# Altium schematic symbol library Passive components.SchLib: 31 symbols
Pins are listed as number, name and electrical type; pins without a type are passive.

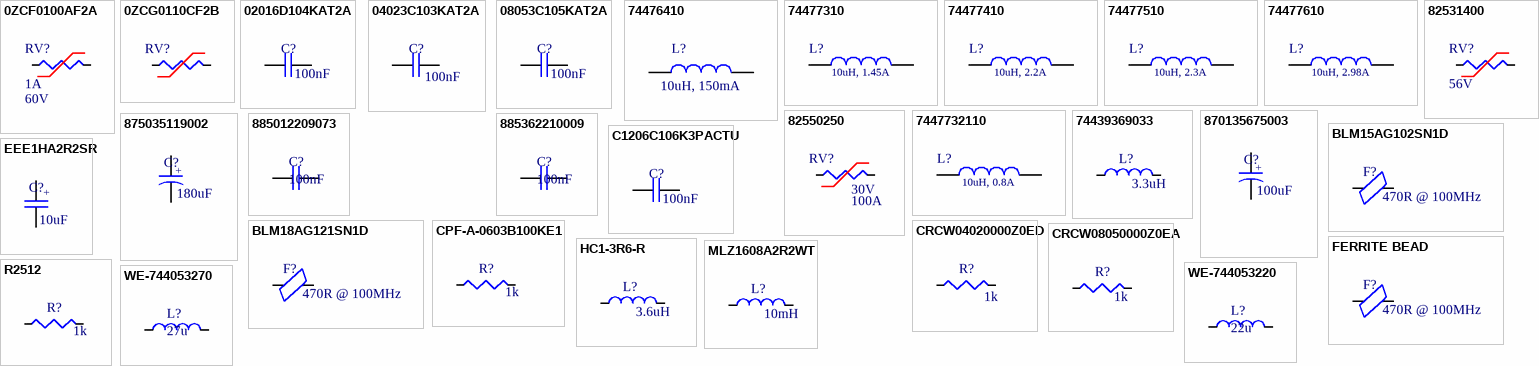
[diagram p0: symbols 0ZCF0100AF2A to WE-744053270]

## 0ZCF0100AF2A
designator RV?  Voltage rating: 60V  Hold current: 1A
Polyfuse 2920; Requirements: 0ZCF0100AF2A
footprint VARISTOR 2920 (Chip Resistor, 2-Leads, Body 7.36x5.12mm, IPC Medium Density)
pins: 1, 2

## 0ZCG0110CF2B
designator RV?
Polyfuse 1812; ComponentLink1URL: https://datasheet.ciiva.com/12349/82550250-91849-12349827.pdf?src-supplier=Mouser; ComponentLink1Description: https://datasheet.ciiva.com/12349/82550250-91849-12349827.pdf?src-supplier=Mouser; ComponentLink2URL: https://datasheet.ciiva.com/366/82550250-366295.pdf?src-supplier=Digi-Key; ComponentLink2Description: https://datasheet.ciiva.com/366/82550250-366295.pdf?src-supplier=Digi-Key; ComponentLink3URL: https://datasheet.ciiva.com/11834/0900766b80d2e3c9-11834574.pdf?src-supplier=RSComponents; ComponentLink3Description: https://datasheet.ciiva.com/11834/0900766b80d2e3c9-11834574.pdf?src-supplier=RSComponents; ComponentLink4URL: https://datasheet.ciiva.com/22714/78088-22714501.pdf?src-supplier=Element14; ComponentLink4Description: https://datasheet.ciiva.com/22714/78088-22714501.pdf?src-supplier=Element14; ComponentLink5URL: https://datasheet.ciiva.com/1277/78088-1277607.pdf?src-supplier=Element14; ComponentLink5Description: https://datasheet.ciiva.com/1277/78088-1277607.pdf?src-supplier=Element14; ComponentLink6URL: https://datasheet.ciiva.com/366/82550250-366296.pdf?src-supplier=Digi-Key; ComponentLink6Description: https://datasheet.ciiva.com/366/82550250-366296.pdf?src-supplier=Digi-Key; ComponentLink7URL: https://datasheet.ciiva.com/366/82550250-366297.pdf?src-supplier=Digi-Key; ComponentLink7Description: https://datasheet.ciiva.com/366/82550250-366297.pdf?src-supplier=Digi-Key; ComponentLink8URL: https://datasheet.ciiva.com/26310/82550250-eng-tds-26310076.pdf?src-supplier=Distrelec; ComponentLink8Description: https://datasheet.ciiva.com/26310/82550250-eng-tds-26310076.pdf?src-supplier=Distrelec
footprint Varistor 1812
pins: 1, 2

## 02016D104KAT2A
designator C?  value 100nF
C0603
footprint C0603
pins: 1, 2

## 04023C103KAT2A
designator C?  value 100nF
C0402
footprint C0402
pins: 1, 2

## 08053C105KAT2A
designator C?  value 100nF
C0805
footprint C0805
pins: 1, 2

## 74476410
designator L?, comment 10uH, 150mA
WE-GF SMT Wire Wound Inductor, size 1210, 10uH, 150mA; Manufacturer Part Number: 74476410; Manufacturer: Wurth Elektronik; Q-Factor: 30; Self Resonant Frequency: 40MHz; DC Resistance max.: 2.1Ohm; ComponentLink1Description: Manufacturer; ComponentLink1URL: http://www.we-online.de; ComponentLink2Description: Datasheet; ComponentLink2URL: https://www.we-online.com/catalog/datasheet/74476410.pdf; Operating Temperature: -40 to +105degC; Packaging: Tape and Reel; Published Date: April 2020; Inductance: 10uH; Rated Current: 150mA; Mounting Technology: SMT; Size: 1210
footprint WE-GF_1210
pins: 1, 2

## 74477310
designator L?, comment 10uH, 1.45A
WE-PD2 SMT Power Inductor, size 4532, 10uH, 1.45A; Manufacturer: Wurth Elektronik; Manufacturer Part Number: 74477310; Self Resonant Frequency: 37MHz; DC Resistance max.: 0.182Ohm; DC Resistance typ.: 0.118Ohm; Saturation Current: 1.74A; ComponentLink1Description: Manufacturer; ComponentLink1URL: http://www.we-online.de; ComponentLink2Description: Datasheet; ComponentLink2URL: https://www.we-online.com/catalog/datasheet/74477310.pdf; Packaging: Tape and Reel; Published Date: April 2020; Rated Current: 1.45A; Operating Temperature: -40 to +125degC; Size: 4532; Inductance: 10uH; Mounting Technology: SMT
footprint WE-PD2_4532
pins: 1, 2

## 74477410
designator L?, comment 10uH, 2.2A
WE-PD2 SMT Power Inductor, size 5848, 10uH, 2.2A; Manufacturer: Wurth Elektronik; Manufacturer Part Number: 74477410; Self Resonant Frequency: 26MHz; DC Resistance max.: 0.1Ohm; DC Resistance typ.: 0.078Ohm; Saturation Current: 2.5A; ComponentLink1Description: Manufacturer; ComponentLink1URL: http://www.we-online.de; ComponentLink2Description: Datasheet; ComponentLink2URL: https://www.we-online.com/catalog/datasheet/74477410.pdf; Packaging: Tape and Reel; Published Date: April 2020; Rated Current: 2.2A; Operating Temperature: -40 to +125degC; Size: 5848; Inductance: 10uH; Mounting Technology: SMT
footprint WE-PD2_5848
pins: 1, 2

## 74477510
designator L?, comment 10uH, 2.3A
WE-PD2 SMT Power Inductor, size 7850, 10uH, 2.3A; Manufacturer: Wurth Elektronik; Manufacturer Part Number: 74477510; Self Resonant Frequency: 28MHz; DC Resistance max.: 0.07Ohm; DC Resistance typ.: 0.044Ohm; Saturation Current: 2.95A; ComponentLink1Description: Manufacturer; ComponentLink1URL: http://www.we-online.de; ComponentLink2Description: Datasheet; ComponentLink2URL: https://www.we-online.com/catalog/datasheet/74477510.pdf; Packaging: Tape and Reel; Published Date: April 2020; Rated Current: 2.3A; Operating Temperature: -40 to +125degC; Size: 7850; Inductance: 10uH; Mounting Technology: SMT
footprint WE-PD2_7850
pins: 1, 2

## 74477610
designator L?, comment 10uH, 2.98A
WE-PD2 SMT Power Inductor, size 1054, 10uH, 2.98A; Manufacturer: Wurth Elektronik; Manufacturer Part Number: 74477610; Self Resonant Frequency: 24MHz; DC Resistance max.: 0.06Ohm; DC Resistance typ.: 0.028Ohm; Saturation Current: 3.24A; ComponentLink1Description: Manufacturer; ComponentLink1URL: http://www.we-online.de; ComponentLink2Description: Datasheet; ComponentLink2URL: https://www.we-online.com/catalog/datasheet/74477610.pdf; Packaging: Tape and Reel; Published Date: April 2020; Rated Current: 2.98A; Operating Temperature: -40 to +125degC; Size: 1054; Inductance: 10uH; Mounting Technology: SMT
footprint WE-PD2_1054
pins: 1, 2

## 82531400
designator RV?  Operating voltage: 56V
Varistor 1206; Requirements: 82531400
footprint VARISTOR 1206 (Chip Resistor, 2-Leads, Body 3.20x1.60mm, IPC Medium Density)
pins: 1, 2

## 82550250
designator RV?  Max Surge Current: 100A  Max Voltage Rating (DC): 30V
Varistor 0805; Manufacturer 1: Wurth Electronics; Manufacturer Part Number 1: 82550250; Capacitance: 310pF; Current Rating: 1A; Voltage Rating (AC): 25V; Clamping Voltage: 65V; Number of Circuits: 1; Energy: 0.3J; Min Varistor Voltage: 35.1V; Varistor Voltage: 39V; Max Varistor Voltage: 42.9V; Supplier 1: Digi-Key; Stock 1: 544; Pricing 1: 1=0.66000, 10=0.64500, 50=0.61800, 100=0.59100, 500=0.56400, 1000=0.53800 (USD); RoHS: Yes; Mount: Surface Mount; Case/Package: 0805; Case Code (Imperial): 0805; Case Code (Metric): 2012; Min Operating Temperature: -40°C; Max Operating Temperature: 85°C; Packaging: Tape and Reel; Voltage Rating (DC): 30V; Package Quantity: 1; Max Supply Voltage: 25V; Max Voltage Rating (AC): 25V; Termination: SMD/SMT; Clamping Current: 1A; Peak Pulse Current: 100A; Length: 2mm; Width: 1.25mm; Depth: 1.25mm; REACH SVHC: Unknown; ComponentLink1URL: https://datasheet.ciiva.com/12349/82550250-91849-12349827.pdf?src-supplier=Mouser; ComponentLink1Description: https://datasheet.ciiva.com/12349/82550250-91849-12349827.pdf?src-supplier=Mouser; ComponentLink2URL: https://datasheet.ciiva.com/366/82550250-366295.pdf?src-supplier=Digi-Key; ComponentLink2Description: https://datasheet.ciiva.com/366/82550250-366295.pdf?src-supplier=Digi-Key; ComponentLink3URL: https://datasheet.ciiva.com/11834/0900766b80d2e3c9-11834574.pdf?src-supplier=RSComponents; ComponentLink3Description: https://datasheet.ciiva.com/11834/0900766b80d2e3c9-11834574.pdf?src-supplier=RSComponents; ComponentLink4URL: https://datasheet.ciiva.com/22714/78088-22714501.pdf?src-supplier=Element14; ComponentLink4Description: https://datasheet.ciiva.com/22714/78088-22714501.pdf?src-supplier=Element14; ComponentLink5URL: https://datasheet.ciiva.com/1277/78088-1277607.pdf?src-supplier=Element14; ComponentLink5Description: https://datasheet.ciiva.com/1277/78088-1277607.pdf?src-supplier=Element14; ComponentLink6URL: https://datasheet.ciiva.com/366/82550250-366296.pdf?src-supplier=Digi-Key; ComponentLink6Description: https://datasheet.ciiva.com/366/82550250-366296.pdf?src-supplier=Digi-Key; ComponentLink7URL: https://datasheet.ciiva.com/366/82550250-366297.pdf?src-supplier=Digi-Key; ComponentLink7Description: https://datasheet.ciiva.com/366/82550250-366297.pdf?src-supplier=Digi-Key; ComponentLink8URL: https://datasheet.ciiva.com/26310/82550250-eng-tds-26310076.pdf?src-supplier=Distrelec; ComponentLink8Description: https://datasheet.ciiva.com/26310/82550250-eng-tds-26310076.pdf?src-supplier=Distrelec; Supplier Part Number 1: 732-2547-1-ND
footprint VARISTOR 0805
pins: 1, 2

## 7447732110
designator L?, comment 10uH, 0.8A
WE-PD2 SMT Power Inductor, size 3521, 10uH, 0.8A; Manufacturer: Wurth Elektronik; Manufacturer Part Number: 7447732110; Self Resonant Frequency: 45MHz; DC Resistance max.: 0.3Ohm; DC Resistance typ.: 0.237Ohm; Saturation Current: 1.23A; ComponentLink1Description: Manufacturer; ComponentLink1URL: http://www.we-online.de; ComponentLink2Description: Datasheet; ComponentLink2URL: https://www.we-online.com/catalog/datasheet/7447732110.pdf; Packaging: Tape and Reel; Published Date: April 2020; Rated Current: 0.8A; Operating Temperature: -40 to +125degC; Size: 3521; Inductance: 10uH; Mounting Technology: SMT
footprint WE-PD2_3521
pins: 1, 2

## 74439369033
designator L?, comment 3.3uH
Inductor 1090 3.3uH 15A 3.4mOhm; Value: 3.3uH
footprint L 1090 (SMT Power Inductor, 2-Leads, body 11.6x10.5mm)
pins: 1, 2

## 870135675003
designator C?  value 100uF
C El. Radial 10x12.5mm
footprint C THT 10x12.5 (Aluminium Polymer Radial THD Capacitors, 10x12.5mm)
pins: 1, 2
text: +

## 875035119002
designator C?  value 180uF
C2917 El.
footprint C2917 Molded Polarized
pins: 1, 2
text: +

## 885012209073
designator C?, comment 100nF
C1210
footprint C1210
pins: 1, 2

## 885362210009
designator C?, comment 100nF
C1808
footprint C1808 (Chip Capacitor, 2-Leads, Body 4.50x2.00mm, IPC Low Density)
pins: 1, 2

## BLM15AG102SN1D
designator F?  value 470R @ 100MHz
Ferrite bead 0402
footprint Ferrite bead 0402
pins: 1, 2

## BLM18AG121SN1D
designator F?  value 470R @ 100MHz
Ferrite bead 0603
footprint Ferrite bead 0603
pins: 1, 2

## C1206C106K3PACTU
designator C?  value 100nF
C1206
footprint C1206
pins: 1, 2

## CPF-A-0603B100KE1
designator R?  value 1k
R0603
footprint R0603
pins: 1, 2

## CRCW04020000Z0ED
designator R?  value 1k
R0402
footprint R0402
pins: 1, 2

## CRCW08050000Z0EA
designator R?  value 1k
R0805
footprint R0805
pins: 1, 2

## EEE1HA2R2SR
designator C?  value 10uF
El. Capacitor SMD 4x5.4
footprint Capacitor electrolytic SMD 4x5.4 (Aluminum Electrolytic Capacitor, Body 4.30x4.30x5.40mm, IPC Low Density)
pins: 1, 2
text: +

## FERRITE BEAD
designator F?, comment 470R @ 100MHz
Wurth Ferrite bead 0805; Value: 470R @ 100MHz
footprint Ferrite bead 0805
pins: 1, 2

## HC1-3R6-R
designator L?, comment 3.6uH
3.6uH 16.76A 3.5 mOhm inductor; Value: 3.6uH
footprint HC1-3R6-R (13x13mm Eaton inductor)
pins: 1, 2

## MLZ1608A2R2WT
designator L?  value 10mH
Inductor 0603
footprint Inductor 0603
pins: 1, 2

## R2512
designator R?  value 1k
R2512
footprint R2512
pins: 1, 2

## WE-744053220
designator L?, comment 22u
SMD Inductor, 2-Leads, Body 5.8 x 5.8 mm; PartNumber: 744053220
footprint WE-744053220 (SMD Inductor, 2-Leads, Body 5.8 x 5.8 mm)
pins: 1, 2

## WE-744053270
designator L?, comment 27u
SMD Inductor, 2-Leads, Body 5.8 x 5.8 mm; PartNumber: 744053270
footprint WE-744053270 (SMD Inductor, 2-Leads, Body 5.8 x 5.8 mm)
pins: 1, 2